# EAGLE library part XA07 (library connectors)
Connector 7 pins, alternating
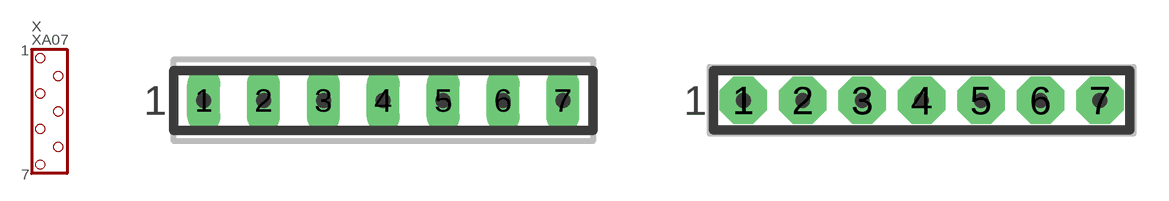
[diagram p31: symbol with the pads of X07L-SIL; footprints X07L-SIL, X07N-SIL]

Designator prefix X

## XA07L  [X07L-SIL]
1  1
2  2
3  3
4  4
5  5
6  6
7  7

## XA07N  [X07N-SIL]
Pads as for X07L-SIL

## XA07  [X07N-SIL]
Pads as for X07L-SIL

## XA07R  [X07R-SIL]
Pads as for X07L-SIL

## Footprint X07L-SIL (pad centres in mm)
Connector 7 pins, SIL, long pads
drill 0.889 pad 1.397 long: 1 -7.62,0; 2 -5.08,0; 3 -2.54,0; 4 0,0; 5 2.54,0; 6 5.08,0; 7 7.62,0

## Footprint X07N-SIL (pad centres in mm)
Connector 7 pins, SIL
drill 0.889 pad 2.032 octagon: 1 -7.62,0; 2 -5.08,0; 3 -2.54,0; 4 0,0; 5 2.54,0; 6 5.08,0; 7 7.62,0

## Footprint X07R-SIL (pad centres in mm)
Connector 7 pins, SIL, reduced pads
drill 0.889 pad 1.397 square: 1 -7.62,0; 2 -5.08,0; 3 -2.54,0; 4 0,0; 5 2.54,0; 6 5.08,0; 7 7.62,0